# Altium footprint library CONNECTOR.PCBLIB: 232 footprints (part 15 of 15)
Each footprint in its own frame and in the unit in brackets; x right, y up, seen from the top. Pads: shape width x height; smd on the part's side, far side on the other; paste and mask are expansions set on the pad; w line width, h text height; cw(c..) or ccw(c..) is an arc to the next point about the centre after c.
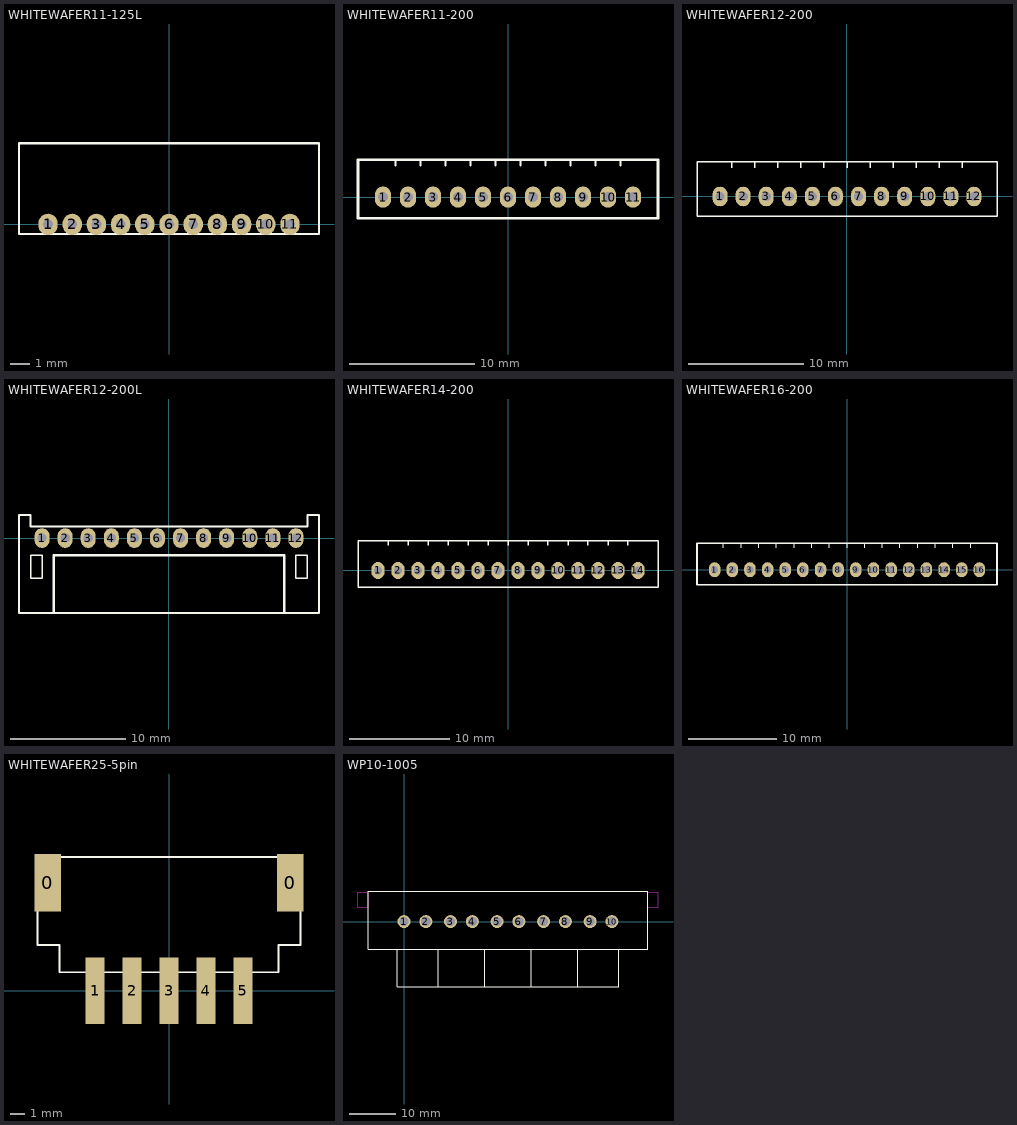
[diagram p14: the footprints below, top view; thin cyan lines are the x and y axes]

## WHITEWAFER11-125L [mm]
pads (11):
  oval 1x1.1 hole 0.5: 1(-6.25,0) 2(-5,0) 3(-3.75,0) 4(-2.5,0) 5(-1.25,0) 6(0,0) 7(1.25,0) 8(2.5,0) 9(3.75,0) 10(5,0) 11(6.25,0)
TopOverlay:
  lines w0.127: -7.75,-0.5 7.75,-0.5 7.75,4.2 -7.75,4.2 -7.75,-0.5

## WHITEWAFER11-200 [mm]
pads (11):
  oval 1.3x1.7 hole 0.8: 1(-10,0) 2(-8,0) 3(-6,0) 4(-4,0) 5(-2,0) 6(0,0) 7(2,0) 8(4,0) 9(6,0) 10(8,0) 11(10,0)
TopOverlay:
  lines w0.127: -9,2.5 -9,3 ; -7,2.5 -7,3 ; -5,2.5 -5,3 ; -3,2.5 -3,3 ; -1,2.5 -1,3 ; 1,2.5 1,3 ; 3,2.5 3,3 ; 5,2.5 5,3 ; 9,2.5 9,3 ; 7,2.5 7,3 7,2.5
  lines w0.203: -12,-1.7 -12,3 12,3 12,-1.7 -12,-1.7

## WHITEWAFER12-200 [mm]
pads (12):
  oval 1.3x1.7 hole 0.8: 1(-11,0) 2(-9,0) 3(-7,0) 4(-5,0) 5(-3,0) 6(-1,0) 7(1,0) 8(3,0) 9(5,0) 10(7,0) 11(9,0) 12(11,0)
TopOverlay:
  lines w0.127: -10,2.5 -10,3 ; -8,2.5 -8,3 ; -6,2.5 -6,3 ; -4,2.5 -4,3 ; -2,2.5 -2,3 ; 0,2.5 0,3 ; 2,2.5 2,3 ; 6,2.5 6,3 ; 8,2.5 8,3 ; 10,2.5 10,3 ; -13,-1.7 13,-1.7 13,3 -13,3 -13,-1.7 ; 4,2.5 4,3 4,2.5

## WHITEWAFER12-200L [mm]
pads (12):
  oval 1.3x1.7 hole 0.8: 1(-11,0) 2(-9,0) 3(-7,0) 4(-5,0) 5(-3,0) 6(-1,0) 7(1,0) 8(3,0) 9(5,0) 10(7,0) 11(9,0) 12(11,0)
TopOverlay:
  lines w0.127: -12,-3.5 -11,-3.5 -11,-1.5 -12,-1.5 -12,-3.5 ; 11,-3.5 12,-3.5 12,-1.5 11,-1.5 11,-3.5
  lines w0.203: -10,-6.5 -10,-1.5 10,-1.5 10,-6.5 ; -13,-6.5 -13,0 -13,2 -12,2 -12,1 12,1 12,2 13,2 13,-6.5 -13,-6.5

## WHITEWAFER14-200 [mm] "WHITEWAFER14-200"
pads (14):
  oval 1.3x1.7 hole 0.8: 1(-13,0) 2(-11,0) 3(-9,0) 4(-7,0) 5(-5,0) 6(-3,0) 7(-1,0) 8(1,0) 9(3,0) 10(5,0) 11(7,0) 12(9,0) 13(11,0) 14(13,0)
TopOverlay:
  lines w0.127: -12,2.5 -12,3 ; -10,2.5 -10,3 ; -8,2.5 -8,3 ; -6,2.5 -6,3 ; -4,2.5 -4,3 ; -2,2.5 -2,3 ; 0,2.5 0,3 ; 4,2.5 4,3 ; 6,2.5 6,3 ; 8,2.5 8,3 ; 10,2.5 10,3 ; 12,2.5 12,3 ; -15,-1.7 -15,3 15,3 15,-1.7 -15,-1.7 ; 2,2.5 2,3 2,2.5

## WHITEWAFER16-200 [mm]
pads (16):
  oval 1.3x1.7 hole 0.8: 1(-15,0) 2(-13,0) 3(-11,0) 4(-9,0) 5(-7,0) 6(-5,0) 7(-3,0) 8(-1,0) 9(1,0) 10(3,0) 11(5,0) 12(7,0) 13(9,0) 14(11,0) 15(13,0) 16(15,0)
TopOverlay:
  lines w0.127: -14,2.5 -14,3 ; -12,2.5 -12,3 ; -10,2.5 -10,3 ; -8,2.5 -8,3 ; -6,2.5 -6,3 ; -4,2.5 -4,3 ; -2,2.5 -2,3 ; 0,2.5 0,3 ; 2,2.5 2,3 ; 4,2.5 4,3 ; 6,2.5 6,3 ; 8,2.5 8,3 ; 10,2.5 10,3 ; 12,2.5 12,3 ; 14,2.5 14,3
  lines w0.203: -17,-1.7 17,-1.7 17,3 -17,3 -17,-1.7

## WHITEWAFER25-5pin [mm] "WHITEWAFER25-5pin"
pads (7):
  rect 1.8x3.9 smd: 0(-8.2,7.3) 0(8.2,7.3)
  rect 1.3x4.5 smd: 1(-5,0) 2(-2.5,0) 3(0,0) 4(2.5,0) 5(5,0)
TopOverlay:
  lines w0.127: -8.9,3.1 -7.4,3.1 -7.4,1.25 7.4,1.25 7.4,3.1 8.9,3.1 8.9,9.05 -8.9,9.05 -8.9,3.1

## WP10-1005 [mm]
pads (10):
  round 2.8 hole 2: 1(0,0) 2(4.7,0) 3(10,0) 4(14.7,0) 5(20,0) 6(24.7,0) 7(30,0) 8(34.7,0) 9(40,0) 10(44.7,0)
TopOverlay:
  lines w0.254: -1.5,-6 -1.5,-14 46.2,-14 46.2,-6 ; 7.35,-14 7.35,-6 ; 17.35,-14 17.35,-6 ; 27.35,-14 27.35,-6 ; 37.35,-14 37.35,-6 ; -7.65,-6 52.35,-6 52.35,6.5 -7.65,6.5 -7.65,-6
KeepOutLayer:
  lines w0.127: -9.896,3.097 -7.696,3.097 -7.696,6.297 -9.896,6.297 -9.896,3.097 ; 52.403,3.099 54.603,3.099 54.603,6.299 52.403,6.299 52.403,3.099